# Altium footprint library 691 230 110 0xx.PcbLib: 2 footprints
Each footprint in its own frame and in the unit in brackets; x right, y up, seen from the top. Pads: shape width x height; smd on the part's side, far side on the other; paste and mask are expansions set on the pad; w line width, h text height; cw(c..) or ccw(c..) is an arc to the next point about the centre after c.
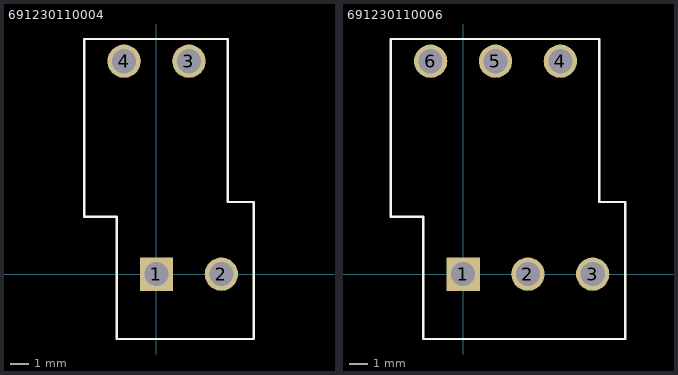
[diagram p0: the footprints below, top view; thin cyan lines are the x and y axes]

## 691230110004 [mm] "3,50mm - modular - 2 rows - Right - horizontal entry with rising cage clamp - 04p"
height 16.2
pads (4):
  rect 1.8x1.8 hole 1.3: 1(0,0)
  round 1.8 hole 1.3: 2(3.5,0) 3(1.75,11.5) 4(-1.75,11.5)
Top Overlay:
  lines w0.127: -3.9,3.1 -2.15,3.1 -2.15,-3.5 5.25,-3.5 5.25,3.9 3.85,3.9 3.85,12.7 -3.9,12.7 -3.9,3.1
3D body: height 16.21, standoff -3.69, extent -3.9,-3.45 5.25,12.65

## 691230110006 [mm] "3,50mm - modular - 2 rows - Right - horizontal entry with rising cage clamp - 06p"
height 16.2
pads (6):
  rect 1.8x1.8 hole 1.3: 1(0,0)
  round 1.8 hole 1.3: 2(3.5,0) 3(7,0) 4(5.25,11.5) 5(1.75,11.5) 6(-1.75,11.5)
Top Overlay:
  lines w0.127: -3.9,3.1 -3.9,12.7 7.35,12.7 7.35,3.9 8.75,3.9 8.75,-3.5 -2.15,-3.5 -2.15,3.1 -3.9,3.1
3D body: height 16.21, standoff -3.69, extent -3.9,-3.5 8.75,12.6